# Altium schematic symbol library conductor.SchLib: 1 symbol
Pins are listed as number, name and electrical type; pins without a type are passive.

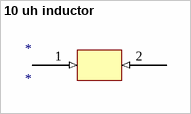
[diagram p0: symbol 10 uh inductor]

## 10 uh inductor
designator *
footprint INDC1411X12N (Chip Inductor, 2-Leads, Body 1.35x1.10mm, IPC Medium Density)
pins: 1 (in), 2 (in)